# EAGLE library part TEXAS_INSTRUMENTS-IO_EXPANDER-TCA9555_RTW_24 (library Module_ICs)
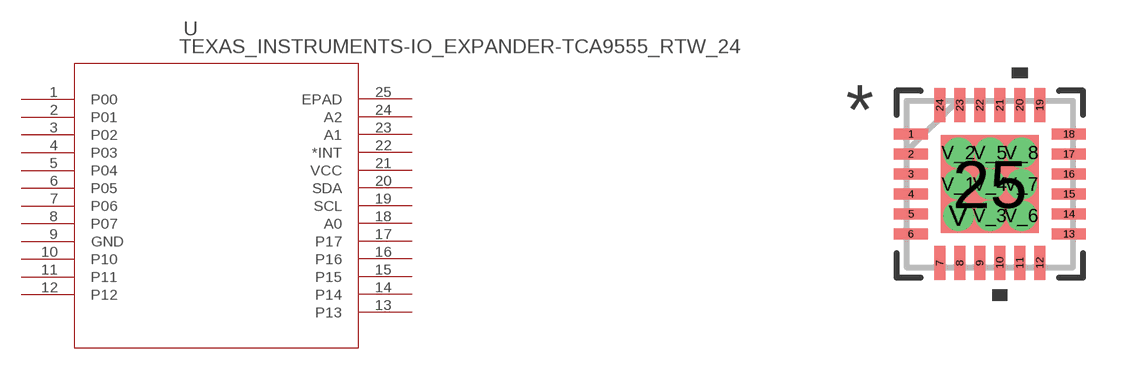
[diagram p27: symbol with the pads of TEXAS_INSTRUMENTS-IO_EXPANDER-TCA9555_RTW_24; footprint TEXAS_INSTRUMENTS-IO_EXPANDER-TCA9555_RTW_24]

Designator prefix U

## TEXAS_INSTRUMENTS-IO_EXPANDER-TCA9555_RTW_24 (DATASHEETURL: httpwww.ti.comlitgpnTCA9555; FAMILY_NAME: I2C IO EXPANDER; GENERIC_PART_NUMBER: TCA9555; INDUSTRY_STD_PKG_TYPE: QFN; MANUFACTURER: Texas Instruments; MANUFACTURER_PART_NUMBER: tca9555_rtw_24; PACKAGE_DESIGNATOR: RTW; PIN_COUNT: 24; VENDOR: Texas Instruments)  [TEXAS_INSTRUMENTS-IO_EXPANDER-TCA9555_RTW_24]
1  P00
2  P01
3  P02
4  P03
5  P04
6  P05
7  P06
8  P07
9  GND  pwr
10  P10
11  P11
12  P12
13  P13
14  P14
15  P15
16  P16
17  P17
18  A0  in
19  SCL
20  SDA
21  VCC  pwr
22  *INT  out
23  A1  in
24  A2  in
25  EPAD  pas

## Footprint TEXAS_INSTRUMENTS-IO_EXPANDER-TCA9555_RTW_24 (pad centres in mm)
smd 0.85 x 0.28: 1 -1.975,1.25; 2 -1.975,0.75; 3 -1.975,0.25; 4 -1.975,-0.25; 5 -1.975,-0.75; 6 -1.975,-1.25; 13 1.975,-1.25; 14 1.975,-0.75; 15 1.975,-0.25; 16 1.975,0.25; 17 1.975,0.75; 18 1.975,1.25
smd 0.28 x 0.85: 7 -1.25,-1.975; 8 -0.75,-1.975; 9 -0.25,-1.975; 10 0.25,-1.975; 11 0.75,-1.975; 12 1.25,-1.975; 19 1.25,1.975; 20 0.75,1.975; 21 0.25,1.975; 22 -0.25,1.975; 23 -0.75,1.975; 24 -1.25,1.975
smd 2.45 x 2.45: 25 0,0
drill 0.254 pad 0.508: V -0.787,-0.787; V_1 -0.787,0; V_2 -0.787,0.787; V_3 0,-0.787; V_4 0,0; V_5 0,0.787; V_6 0.787,-0.787; V_7 0.787,0; V_8 0.787,0.787